# Altium footprint library VMA402.PcbLib: 1 footprints
Each footprint in its own frame and in the unit in brackets; x right, y up, seen from the top. Pads: shape width x height; smd on the part's side, far side on the other; paste and mask are expansions set on the pad; w line width, h text height; cw(c..) or ccw(c..) is an arc to the next point about the centre after c.
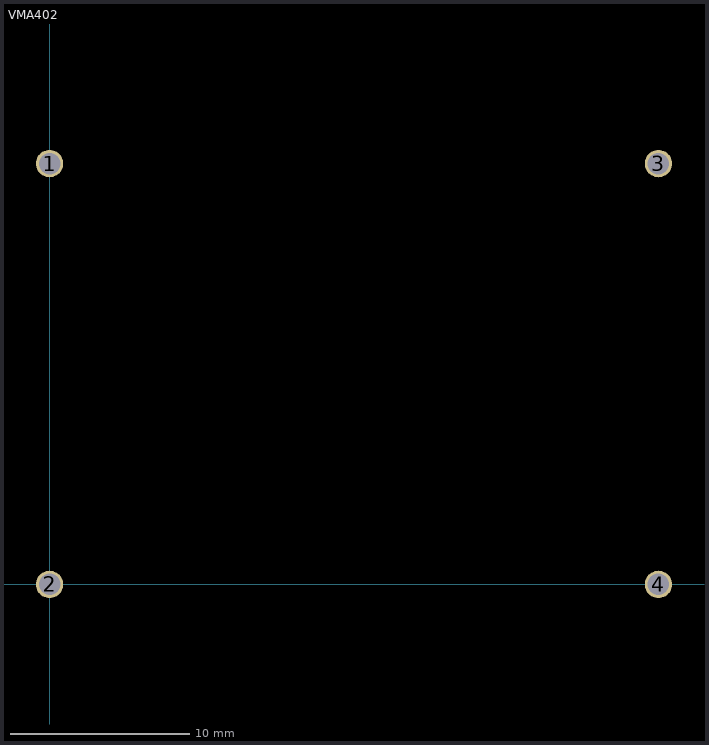
[diagram p0: the footprint, top view; thin cyan lines are the x and y axes]

## VMA402 [mm] "Velleman voltage regulator"
height 12
pads (4):
  round 1.53 hole 1.2: 1(0,23.5) 2(0,0) 3(34,23.5) 4(34,0)